# Altium schematic symbol library FT230X FTDI IC.SchLib: 1 symbol
Pins are listed as number, name and electrical type; pins without a type are passive.

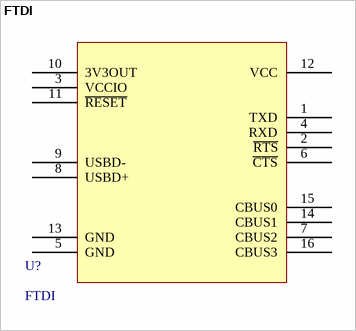
[diagram p0: symbol FTDI]

## FTDI
designator U?
USB-UART Converter; Manufacturer Part No.: FT230XS-U; Digi-Key Part No.: 768-1135-1-ND; ComponentLink1Description: Datasheet; ComponentLink1URL: http://www.ftdichip.com/Support/Documents/DataSheets/ICs/DS_FT230X.pdf
footprint FTDI_SSOP_16
pins: 1 TXD, 2 ~{RTS}, 3 VCCIO, 4 RXD, 5 GND, 6 ~{CTS}, 7 CBUS2, 8 USBD+, 9 USBD-, 10 3V3OUT, 11 ~{RESET}, 12 VCC, 13 GND, 14 CBUS1, 15 CBUS0, 16 CBUS3